# Altium schematic symbol library 4-1437565-9.SchLib: 1 symbol
Pins are listed as number, name and electrical type; pins without a type are passive.

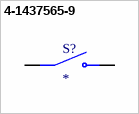
[diagram p0: symbol 4-1437565-9]

## 4-1437565-9
designator S?
MF: {'manufacturer': u'TE Connectivity'}; MP: 4-1437565-9; Package: None; Price: None; Value: *; Availability: Unavailable
footprint SW_4-1437565-9
pins: 1 COM, 2 COM, 3 NO, 4 NO